# EAGLE library part USB-C (library LARS_409_USB)
USB-C (USB TYPE-C) USB 3.1 (USB 3.1 Gen 2, Superspeed+) Receptacle Connector 24 Position Surface Mount, Right Angle; Through Hole Check prices <https://pricing.snapeda.com/parts/2012670005/Molex/view-part?ref=eda>
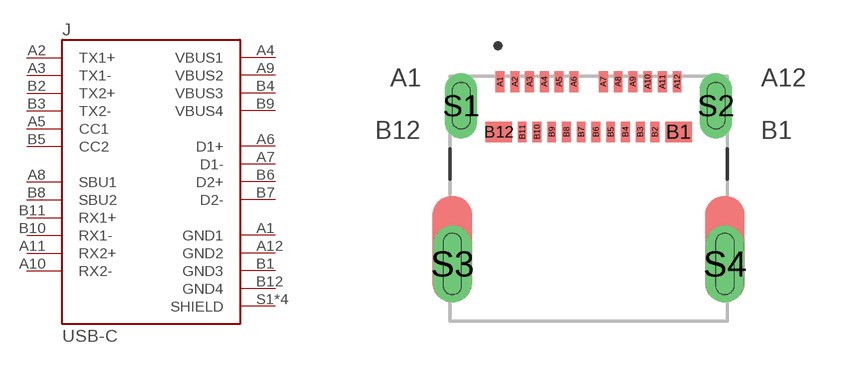
[diagram p0: symbol with the pads of USB-C_MOLEX; footprint USB-C_MOLEX]

Designator prefix J

## USB-C (AVAILABILITY: In Stock; DESCRIPTION: USB-C (USB TYPE-C) USB 3.2 Gen 2 (USB 3.1 Gen 2, Superspeed + (USB 3.1)) Receptacle Connector 24 Position Surface Mount, Right Angle; Through Hole; MF: Molex; MP: 2012670005; PACKAGE: None; PRICE: None; PURCHASE-URL: https://pricing.snapeda.com/search/part/2012670005/?ref=eda)  [USB-C_MOLEX]
A1  GND1  pwr
A2  TX1+  pas
A3  TX1-  pas
A4  VBUS1  pwr
A5  CC1  pas
A6  D1+  pas
A7  D1-  pas
A8  SBU1  pas
A9  VBUS2  pwr
A10  RX2-  pas
A11  RX2+  pas
A12  GND2  pwr
B1  GND3  pwr
B2  TX2+  pas
B3  TX2-  pas
B4  VBUS3  pwr
B5  CC2  pas
B6  D2+  pas
B7  D2-  pas
B8  SBU2  pas
B9  VBUS4  pwr
B10  RX1-  pas
B11  RX1+  pas
B12  GND4  pwr
S1  SHIELD  pwr
S2  SHIELD  pwr
S3  SHIELD  pwr
S4  SHIELD  pwr

## Footprint USB-C_MOLEX (pad centres in mm)
smd 0.3 x 0.7: A1 -3,0.81; A2 -2.5,0.81; A3 -2,0.81; A4 -1.5,0.81; A5 -1,0.81; A6 -0.5,0.81; A7 0.5,0.81; A8 1,0.81; A9 1.5,0.81; A10 2,0.81; A11 2.5,0.81; A12 3,0.81; B2 2.25,-0.89; B3 1.75,-0.89; B4 1.25,-0.89; B5 0.75,-0.89; B6 0.25,-0.89; B7 -0.25,-0.89; B8 -0.75,-0.89; B9 -1.25,-0.89; B10 -1.75,-0.89; B11 -2.25,-0.89
smd 0.9 x 0.7: B1 3.05,-0.89; B12 -3.05,-0.89
drill 0.6 pad 1.1 long: S1 -4.32,0; S2 4.32,0
drill 0.6 pad 1.3 long: S3 -4.62,-5.36; S4 4.62,-5.36